# EAGLE library part HIH-6130 (library Strutz Electronic Industries)
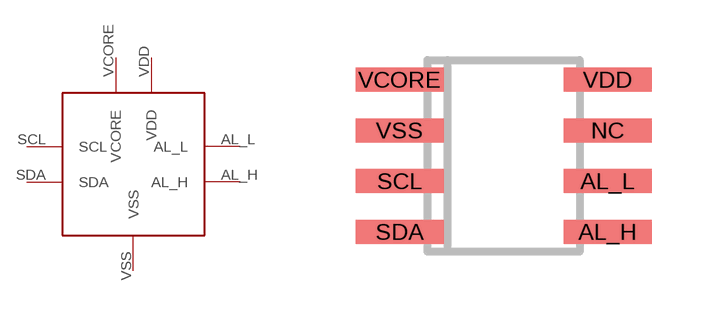
[diagram p7: symbol with the pads of HIH-6130; footprint HIH-6130]

Designator prefix -

## HIH-6130SO-8  [HIH-6130]
AL_H  AL_H
AL_L  AL_L
SCL  SCL
SDA  SDA
VCORE  VCORE
VDD  VDD
VSS  VSS

## Footprint HIH-6130 (pad centres in mm)
smd 2.2 x 0.6: AL_H 2.6,-1.905; AL_L 2.6,-0.635; NC 2.6,0.635; SCL -2.6,-0.635; SDA -2.6,-1.905; VCORE -2.6,1.905; VDD 2.6,1.905; VSS -2.6,0.635